# Altium schematic symbol library TH_LED_Series_SCH_Library_ARAF.SchLib: 1 symbol
Pins are listed as number, name and electrical type; pins without a type are passive.

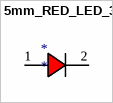
[diagram p0: symbol 5mm_RED_LED_3V]

## 5mm_RED_LED_3V
designator *
footprint 5mm_LED_3V
pins: 1, 2